# Altium schematic symbol library LM2576.SchLib: 1 symbol
Pins are listed as number, name and electrical type; pins without a type are passive.

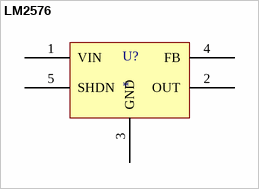
[diagram p0: symbol LM2576]

## LM2576
designator U?
LM2576/LM2576HV 3A Step-Down Voltage Regulator; Manufacturer: National Semiconductor; Vendor: Digi-Key; Part No.: LM2576 / LM2576HV; Price Est.: $5.85
pins: 1 VIN, 2 OUT, 3 GND, 4 FB, 5 SHDN